# Altium footprint library PcbLib1.PcbLib: 2 footprints
Each footprint in its own frame and in the unit in brackets; x right, y up, seen from the top. Pads: shape width x height; smd on the part's side, far side on the other; paste and mask are expansions set on the pad; w line width, h text height; cw(c..) or ccw(c..) is an arc to the next point about the centre after c.
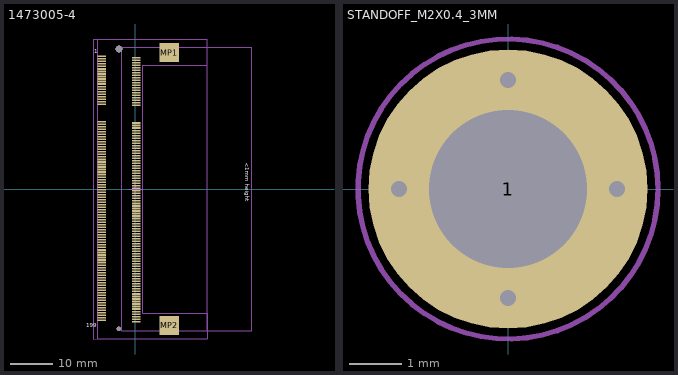
[diagram p0: the footprints below, top view; thin cyan lines are the x and y axes]

## 1473005-4 [mm] "DDR2 SODIMM SOCKET 200P 5"
height 5.2
pads (204):
  rect 2.05x0.38 smd: 1(-8.05,31.65) 1(-8.05,31.65) 2(0.15,31.35) 2(0.15,31.35) 3(-8.05,31.05) 4(0.15,30.75) 5(-8.05,30.45) 6(0.15,30.15) 7(-8.05,29.85) 8(0.15,29.55) 9(-8.05,29.25) 10(0.15,28.95) 11(-8.05,28.65) 12(0.15,28.35) 13(-8.05,28.05) 14(0.15,27.75) 15(-8.05,27.45) 16(0.15,27.15) 17(-8.05,26.85) 18(0.15,26.55) 19(-8.05,26.25) 20(0.15,25.95) 21(-8.05,25.65) 22(0.15,25.35) 23(-8.05,25.05) 24(0.15,24.75) 25(-8.05,24.45) 26(0.15,24.15) 27(-8.05,23.85) 28(0.15,23.55) 29(-8.05,23.25) 30(0.15,22.95) 31(-8.05,22.65) 32(0.15,22.35) 33(-8.05,22.05) 34(0.15,21.75) 35(-8.05,21.45) 36(0.15,21.15) 37(-8.05,20.85) 38(0.15,20.55) 39(-8.05,20.25) 40(0.15,19.95) 41(-8.05,16.05) 42(0.15,15.75) 43(-8.05,15.45) 44(0.15,15.15) 45(-8.05,14.85) 46(0.15,14.55) 47(-8.05,14.25) 48(0.15,13.95) 49(-8.05,13.65) 50(0.15,13.35) 51(-8.05,13.05) 52(0.15,12.75) 53(-8.05,12.45) 54(0.15,12.15) 55(-8.05,11.85) 56(0.15,11.55) 57(-8.05,11.25) 58(0.15,10.95) 59(-8.05,10.65) 60(0.15,10.35) 61(-8.05,10.05) 62(0.15,9.75) 63(-8.05,9.45) 64(0.15,9.15) 65(-8.05,8.85) 66(0.15,8.55) 67(-8.05,8.25) 68(0.15,7.95) 69(-8.05,7.65) 70(0.15,7.35) 71(-8.05,7.05) 72(0.15,6.75) 73(-8.05,6.45) 74(0.15,6.15) 75(-8.05,5.85) 76(0.15,5.55) 77(-8.05,5.25) 78(0.15,4.95) 79(-8.05,4.65) 80(0.15,4.35) 81(-8.05,4.05) 82(0.15,3.75) 83(-8.05,3.45) 84(0.15,3.15) 85(-8.05,2.85) 86(0.15,2.55) 87(-8.05,2.25) 88(0.15,1.95) 89(-8.05,1.65) 90(0.15,1.35) 91(-8.05,1.05) 92(0.15,0.75) 93(-8.05,0.45) 94(0.15,0.15) 95(-8.05,-0.15) 96(0.15,-0.45) 97(-8.05,-0.75) 98(0.15,-1.05) 99(-8.05,-1.35) 100(0.15,-1.65) 101(-8.05,-1.95) 102(0.15,-2.25) 103(-8.05,-2.55) 104(0.15,-2.85) 105(-8.05,-3.15) 106(0.15,-3.45) 107(-8.05,-3.75) 108(0.15,-4.05) 109(-8.05,-4.35) 110(0.15,-4.65) 111(-8.05,-4.95) 112(0.15,-5.25) 113(-8.05,-5.55) 114(0.15,-5.85) 115(-8.05,-6.15) 116(0.15,-6.45) 117(-8.05,-6.75) 118(0.15,-7.05) 119(-8.05,-7.35) 120(0.15,-7.65) 121(-8.05,-7.95) 122(0.15,-8.25) 123(-8.05,-8.55) 124(0.15,-8.85) 125(-8.05,-9.15) 126(0.15,-9.45) 127(-8.05,-9.75) 128(0.15,-10.05) 129(-8.05,-10.35) 130(0.15,-10.65) 131(-8.05,-10.95) 132(0.15,-11.25) 133(-8.05,-11.55) 134(0.15,-11.85) 135(-8.05,-12.15) 136(0.15,-12.45) 137(-8.05,-12.75) 138(0.15,-13.05) 139(-8.05,-13.35) 140(0.15,-13.65) 141(-8.05,-13.95) 142(0.15,-14.25) 143(-8.05,-14.55) 144(0.15,-14.85) 145(-8.05,-15.15) 146(0.15,-15.45) 147(-8.05,-15.75) 148(0.15,-16.05) 149(-8.05,-16.35) 150(0.15,-16.65) 151(-8.05,-16.95) 152(0.15,-17.25) 153(-8.05,-17.55) 154(0.15,-17.85) 155(-8.05,-18.15) 156(0.15,-18.45) 157(-8.05,-18.75) 158(0.15,-19.05) 159(-8.05,-19.35) 160(0.15,-19.65) 161(-8.05,-19.95) 162(0.15,-20.25) 163(-8.05,-20.55) 164(0.15,-20.85) 165(-8.05,-21.15) 166(0.15,-21.45) 167(-8.05,-21.75) 168(0.15,-22.05) 169(-8.05,-22.35) 170(0.15,-22.65) 171(-8.05,-22.95) 172(0.15,-23.25) 173(-8.05,-23.55) 174(0.15,-23.85) 175(-8.05,-24.15) 176(0.15,-24.45) 177(-8.05,-24.75) 178(0.15,-25.05) 179(-8.05,-25.35) 180(0.15,-25.65) 181(-8.05,-25.95) 182(0.15,-26.25) 183(-8.05,-26.55) 184(0.15,-26.85) 185(-8.05,-27.15) 186(0.15,-27.45) 187(-8.05,-27.75) 188(0.15,-28.05) 189(-8.05,-28.35) 190(0.15,-28.65) 191(-8.05,-28.95) 192(0.15,-29.25) 193(-8.05,-29.55) 194(0.15,-29.85) 195(-8.05,-30.15) 196(0.15,-30.45) 197(-8.05,-30.75) 198(0.15,-31.05) 199(-8.05,-31.35) 200(0.15,-31.65)
  rect 4.6x4.5 smd: MP1(8.05,32.55) MP2(8.05,-32.55)
via -3.95,-33.4 diameter 1.1 hole 1.1
via -3.95,33.4 diameter 1.6 hole 1.6
Top Overlay:
  text "199" at -11.75,-33 h1
  text "1" at -9.85,32.4 h1
  text "<1mm height" at 26.15,6.3 h1
Top Assembly:
  lines w0.1: -9.95,35.8 -9.95,-35.8 17.1,-35.75 17.1,-33.8 ; -9.95,35.801 17.1,35.75 ; -8.95,35.75 17.1,35.75 ; 1.75,29.55 1.75,-29.6 17.1,-29.6 ; 1.75,29.55 1.75,29.55 ; 1.75,29.55 17.1,29.55 17.1,33.8 17.1,33.8 ; 17.1,-29.6 17.1,-29.6 17.1,-33.8 ; 17.1,-29.6 17.1,-29.6 ; 17.1,-33.8 27.75,-33.8 27.75,33.8 17.1,33.8 ; 17.1,33.8 17.1,35.75
  text "'.Designator'" at -0.032,-0.04 h1.52
Board:
  region: -1.75,33.4
Top Courtyard:
  lines w0.1: 0,-1.5 0,0 ; 0,1.6 0,0 ; 1.5,0 0,0 ; 17.1,-33.8 27.75,-33.8 27.75,33.8 17.1,33.8 ; 0,0 -1.6,0 0,0 ; -9.95,-35.801 17.1,-35.75 17.1,-29.6 1.75,-29.6 1.75,29.55 17.1,29.55 17.1,35.75 -9.95,35.801 -9.95,-35.801
  text "<1mm height" at 15.2,4.9 h1
Top Component Outline:
  lines w0.1: 17.1,-33.8 27.75,-33.8 27.75,33.8 17.1,33.8 ; 17.1,-33.8 17.1,33.8 ; 17.1,-33.8 -3.25,-33.8 -3.25,33.8 17.1,33.8 ; 17.1,-33.8 17.1,-35.75 -8.95,-35.75 -8.95,35.75 17.1,35.75 17.1,33.8
3D body "c-1473005-4-j1-3d.stp": height 5.2, standoff -0.7, extent -8.95,-35.75 17.1,35.75
3D body "Compute Module.stp": height 4.8, standoff 2.2, extent -3.25,-33.8 27.75,33.8

## STANDOFF_M2X0.4_3MM [mm] "SMD standoff, such as 9774030243R by Wurth"
height 3
pads (1):
  round 5.3 / inner round 2.7 / far side round 2.7 hole 3 unplated mask+0.05: 1(0,0)
via 0,2.075 diameter 0.61 hole 0.305
via 0,-2.075 diameter 0.61 hole 0.305
via -2.075,0 diameter 0.61 hole 0.305
via 2.075,0 diameter 0.61 hole 0.305
Top Paste:
  region: 0.317,2.581 0.278,1.576 0.397,1.55 0.628,1.471 0.845,1.359 1.042,1.214 1.214,1.042 1.359,0.845 1.471,0.628 1.55,0.397 1.576,0.278 2.581,0.317 2.554,0.531 2.432,0.946 2.242,1.334 1.991,1.686 1.686,1.991 1.334,2.242 0.946,2.432 0.531,2.554
  region: 2.581,-0.317 1.576,-0.278 1.55,-0.397 1.471,-0.628 1.359,-0.845 1.214,-1.042 1.042,-1.214 0.845,-1.359 0.628,-1.471 0.397,-1.55 0.278,-1.576 0.317,-2.581 0.531,-2.554 0.946,-2.432 1.334,-2.242 1.686,-1.991 1.991,-1.686 2.242,-1.334 2.432,-0.946 2.554,-0.531
  region: -0.317,-2.581 -0.278,-1.576 -0.397,-1.55 -0.628,-1.471 -0.845,-1.359 -1.042,-1.214 -1.214,-1.042 -1.359,-0.845 -1.471,-0.628 -1.55,-0.397 -1.576,-0.278 -2.581,-0.317 -2.554,-0.531 -2.432,-0.946 -2.242,-1.334 -1.991,-1.686 -1.686,-1.991 -1.334,-2.242 -0.946,-2.432 -0.531,-2.554
  region: -2.581,0.317 -1.576,0.278 -1.55,0.397 -1.471,0.628 -1.359,0.845 -1.214,1.042 -1.042,1.214 -0.845,1.359 -0.628,1.471 -0.397,1.55 -0.278,1.576 -0.317,2.581 -0.531,2.554 -0.946,2.432 -1.334,2.242 -1.686,1.991 -1.991,1.686 -2.242,1.334 -2.432,0.946 -2.554,0.531
Top Assembly:
  circle w0.1: c0,0 r2.85
  text "'.Designator'" at -2,-0.5 h1
Top Courtyard:
  circle w0.1: c0,0 r2.85
  lines w0.1: -0.5,0 0.5,0 ; 0,-0.5 0,0.5
Bottom Courtyard:
  circle w0.1: c0,0 r2.85
Top Component Outline:
  circle w0.1: c0,0 r2.175
3D body "9774030243R (rev1).stp": height 3.05, standoff -1.35, extent -2.175,-2.172 2.175,2.172